# EAGLE library part APDS-9960 (library otto)
Avago APDS-9960 Digital Proximity, Ambient Light, RGB, and Gesture Sensor. The APDS-9960 offers ambient light and color measuring, proximity detection, and touchless gesture sensing. It features UV and IR blocking filters, four separate diodes sensitive to different directions, and an I2C compatible interface. Datasheet <https://cdn.sparkfun.com/datasheets/Sensors/Proximity/apds9960.pdf> SparkFun Products SparkFun RGB and Gesture Sensor - APDS-9960 <https://www.sparkfun.com/products/12787> (SEN-12787)
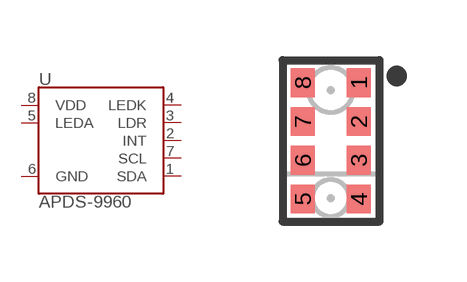
[diagram p6: symbol with the pads of APDS-9960; footprint APDS-9960]

Designator prefix U

## APDS-9960 (DESCRIPTION: Optical Sensor Ambient 560nm I²C 8-SMD Module; DIGI-KEY_PART_NUMBER: 516-3480-1-ND; MF: Broadcom Limited; MP: APDS-9960; PACKAGE: SMD-8 Broadcom Limited; PURCHASE-URL: https://pricing.snapeda.com/search/part/APDS-9960/?ref=eda)  [APDS-9960]
1  SDA
2  INT
3  LDR
4  LEDK
5  LEDA
6  GND
7  SCL
8  VDD

## Footprint APDS-9960 (pad centres in mm)
APDS-9960 Proximity, Light, RGB, Gesture Sensor Datasheet <https://cdn.sparkfun.com/datasheets/Sensors/Proximity/apds9960.pdf> Specifications: Pin Count: 8 Dimensions: 3.94 x 2.36 x 1.35 mm Pitch: 0.97 mm Devices Using: APDS-9960
smd 0.6 x 0.72: 1 0.7,1.455; 2 0.7,0.485; 3 0.7,-0.485; 4 0.7,-1.455; 5 -0.7,-1.455; 6 -0.7,-0.485; 7 -0.7,0.485; 8 -0.7,1.455